# EAGLE library part MKL05ZXXVLC4 (library lib_stankus)
Freescale MKL05ZXXVLC4
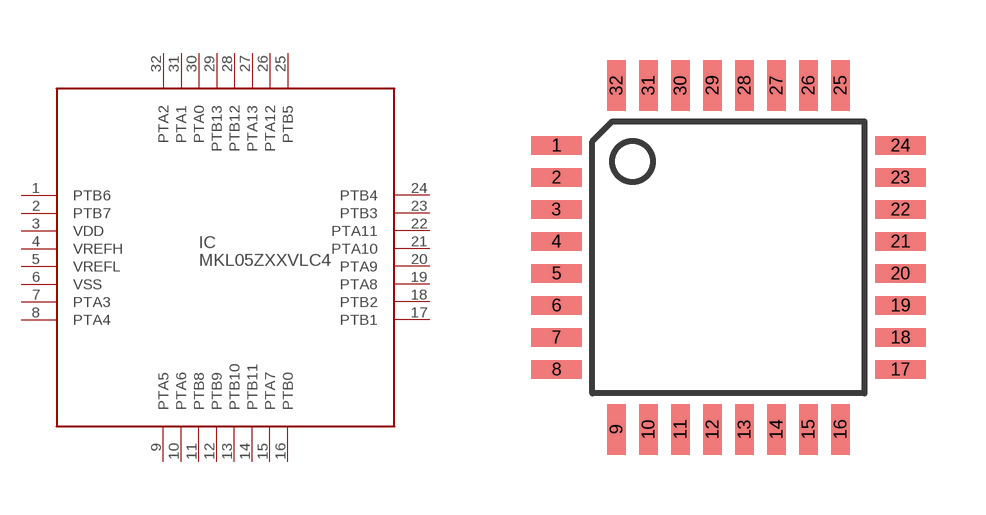
[diagram p116: symbol with the pads of QFP32_7_08; footprint QFP32_7_08]

Designator prefix IC

## MKL05ZXXVLC4-QFP32  [QFP32_7_08]
1  PTB6  pas
2  PTB7  pas
3  VDD  pas
4  VREFH  pas
5  VREFL  pas
6  VSS  pas
7  PTA3  pas
8  PTA4  pas
9  PTA5  pas
10  PTA6  pas
11  PTB8  pas
12  PTB9  pas
13  PTB10  pas
14  PTB11  pas
15  PTA7  pas
16  PTB0  pas
17  PTB1  pas
18  PTB2  pas
19  PTA8  pas
20  PTA9  pas
21  PTA10  pas
22  PTA11  pas
23  PTB3  pas
24  PTB4  pas
25  PTB5  pas
26  PTA12  pas
27  PTA13  pas
28  PTB12  pas
29  PTB13  pas
30  PTA0  pas
31  PTA1  pas
32  PTA2  pas

## Footprint QFP32_7_08 (pad centres in mm)
QFP32, 7x7 MM, 0.8 MM
smd 1.27 x 0.457: 1 -4.3,2.8; 2 -4.3,2; 3 -4.3,1.2; 4 -4.3,0.4; 5 -4.3,-0.4; 6 -4.3,-1.2; 7 -4.3,-2; 8 -4.3,-2.8; 17 4.3,-2.8; 18 4.3,-2; 19 4.3,-1.2; 20 4.3,-0.4; 21 4.3,0.4; 22 4.3,1.2; 23 4.3,2; 24 4.3,2.8
smd 0.457 x 1.27: 9 -2.8,-4.3; 10 -2,-4.3; 11 -1.2,-4.3; 12 -0.4,-4.3; 13 0.4,-4.3; 14 1.2,-4.3; 15 2,-4.3; 16 2.8,-4.3; 25 2.8,4.3; 26 2,4.3; 27 1.2,4.3; 28 0.4,4.3; 29 -0.4,4.3; 30 -1.2,4.3; 31 -2,4.3; 32 -2.8,4.3